# Altium schematic symbol library Testpoint.SchLib: 1 symbol
Pins are listed as number, name and electrical type; pins without a type are passive.

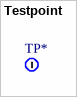
[diagram p0: symbol Testpoint]

## Testpoint
designator TP*  (value not drawn)
Vendor Part Number: PRT-00116; Vendor: Sparkfun; Vendor Description: Break Away Headers - Straight; ComponentLink1URL: https://www.sparkfun.com/products/116; ComponentLink1Description: Datasheet; Manufacturer: Sparkfun; Manufacturer Part Number: PRT-00116
pins: 1 OUT (in)